# Altium footprint library Trans_Chips.PcbLib: 4 footprints
Each footprint in its own frame and in the unit in brackets; x right, y up, seen from the top. Pads: shape width x height; smd on the part's side, far side on the other; paste and mask are expansions set on the pad; w line width, h text height; cw(c..) or ccw(c..) is an arc to the next point about the centre after c.
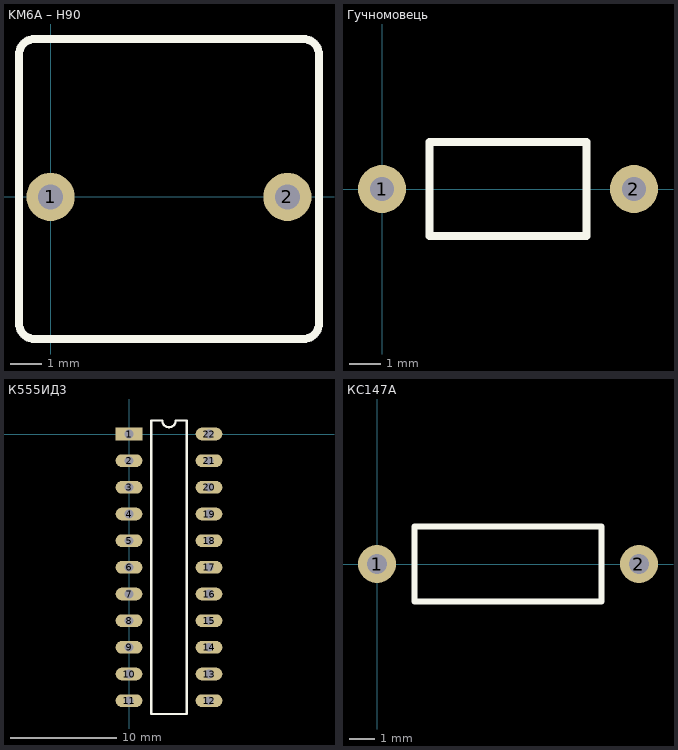
[diagram p0: the footprints below, top view; thin cyan lines are the x and y axes]

## KM6A – H90 [mil] "Condensator"
height 236.22
pads (2):
  round 60 hole 31.5: 1(0,0) 2(295.28,0)
Top Overlay:
  lines w10: -39.37,-157.48 ccw(c-19.69,-157.48) -19.69,-177.17 314.96,-177.17 ccw(c314.96,-157.48) 334.65,-157.48 334.65,177.17 ccw(c314.96,177.17) 314.96,196.85 -19.68,196.85 ccw(c-19.68,177.17) -39.37,177.17 -39.37,-157.48

## Гучномовець [mil] "Sound"
height 393.7
pads (2):
  round 60 hole 30: 1(0,0) 2(314.96,0)
Top Overlay:
  lines w10: 59.06,-59.06 59.06,59.06 255.91,59.06 255.91,-59.06 59.06,-59.06

## К555ИД3 [mm] "Controller"
height 5
pads (22):
  rect 2.5x1.2 hole 0.8: 1(0,0)
  oval 2.5x1.2 hole 0.8: 2(0,-2.5) 3(0,-5) 4(0,-7.5) 5(0,-10) 6(0,-12.5) 7(0,-15) 8(0,-17.5) 9(0,-20) 10(0,-22.5) 11(0,-25) 12(7.5,-25) 13(7.5,-22.5) 14(7.5,-20) 15(7.5,-17.5) 16(7.5,-15) 17(7.5,-12.5) 18(7.5,-10) 19(7.5,-7.5) 20(7.5,-5) 21(7.5,-2.5) 22(7.5,0)
Top Overlay:
  lines w0.2: 2.085,-26.25 2.085,1.25 3.125,1.25 ccw(c3.75,1.25) 4.375,1.25 5.415,1.25 5.415,-26.25 2.085,-26.25

## КС147А [mil] "Diode"
height 118.11
pads (2):
  round 60 hole 31.5: 1(0,0) 2(413.39,0)
Top Overlay:
  lines w10: 59.06,-59.06 59.06,59.06 354.33,59.06 354.33,-59.06 59.06,-59.06